# Altium footprint library PCB库.PcbLib: 44 footprints (part 3 of 3)
Each footprint in its own frame and in the unit in brackets; x right, y up, seen from the top. Pads: shape width x height; smd on the part's side, far side on the other; paste and mask are expansions set on the pad; w line width, h text height; cw(c..) or ccw(c..) is an arc to the next point about the centre after c.
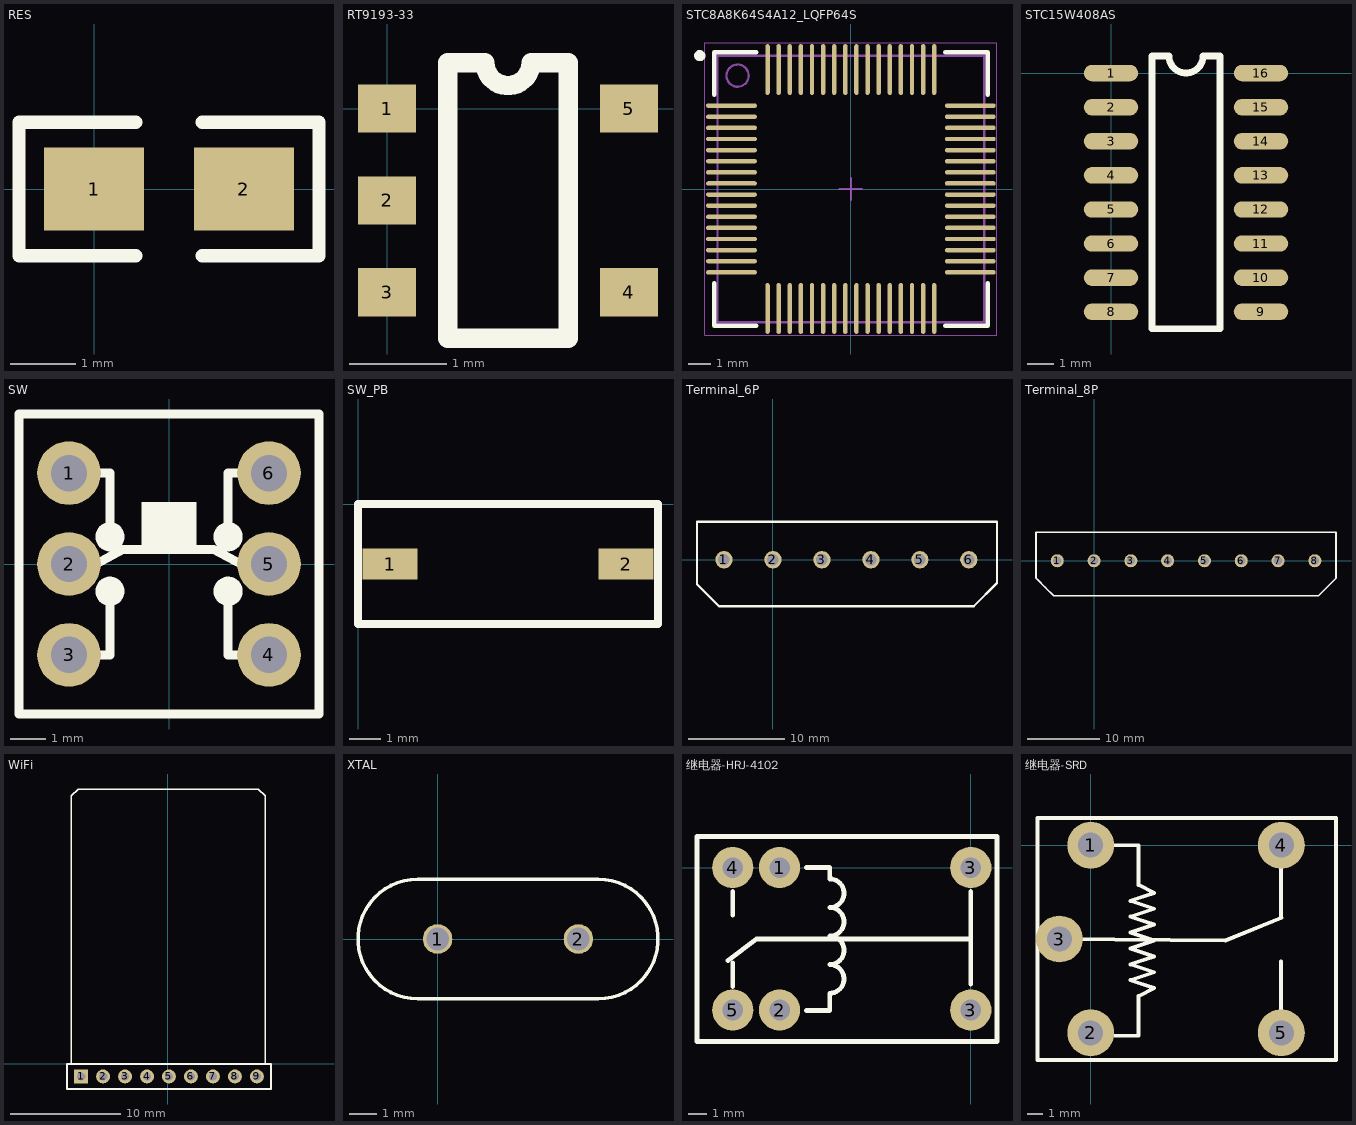
[diagram p2: the footprints below, top view; thin cyan lines are the x and y axes]

## RES [mil]
pads (2):
  rect 60x50 smd: 1(0,0) 2(90,0)
Top Overlay:
  lines w8: 25,-40 -45,-40 -45,40 25,40 ; 65,-40 135,-40 135,40 65,40

## RT9193-33 [mm]
pads (5):
  rect 0.6x0.5 smd: 1(0,0) 2(0,-0.95) 3(0,-1.9) 4(2.5,-1.9) 5(2.5,0)
Top Overlay:
  lines w0.2: 0.627,-2.375 0.627,0.475 1.012,0.475 ccw(c1.25,0.475) 1.488,0.475 1.873,0.475 1.873,-2.375 0.627,-2.375

## STC8A8K64S4A12_LQFP64S [mm] "STC8A8K64S4A12_LQFP64S"
height 1.6
pads (64):
  oval 2.286x0.2 smd: 1(-5.375,3.75) 2(-5.375,3.25) 3(-5.375,2.75) 4(-5.375,2.25) 5(-5.375,1.75) 6(-5.375,1.25) 7(-5.375,0.75) 8(-5.375,0.25) 9(-5.375,-0.25) 10(-5.375,-0.75) 11(-5.375,-1.25) 12(-5.375,-1.75) 13(-5.375,-2.25) 14(-5.375,-2.75) 15(-5.375,-3.25) 16(-5.375,-3.75) 33(5.375,-3.75) 34(5.375,-3.25) 35(5.375,-2.75) 36(5.375,-2.25) 37(5.375,-1.75) 38(5.375,-1.25) 39(5.375,-0.75) 40(5.375,-0.25) 41(5.375,0.25) 42(5.375,0.75) 43(5.375,1.25) 44(5.375,1.75) 45(5.375,2.25) 46(5.375,2.75) 47(5.375,3.25) 48(5.375,3.75)
  oval 0.2x2.286 smd: 17(-3.75,-5.375) 18(-3.25,-5.375) 19(-2.75,-5.375) 20(-2.25,-5.375) 21(-1.75,-5.375) 22(-1.25,-5.375) 23(-0.75,-5.375) 24(-0.25,-5.375) 25(0.25,-5.375) 26(0.75,-5.375) 27(1.25,-5.375) 28(1.75,-5.375) 29(2.25,-5.375) 30(2.75,-5.375) 31(3.25,-5.375) 32(3.75,-5.375) 49(3.75,5.375) 50(3.25,5.375) 51(2.75,5.375) 52(2.25,5.375) 53(1.75,5.375) 54(1.25,5.375) 55(0.75,5.375) 56(0.25,5.375) 57(-0.25,5.375) 58(-0.75,5.375) 59(-1.25,5.375) 60(-1.75,5.375) 61(-2.25,5.375) 62(-2.75,5.375) 63(-3.25,5.375) 64(-3.75,5.375)
Top Overlay:
  circle w0.25: c-6.8,6 r0.125
  lines w0.2: -6.15,-4.25 -6.15,-6.15 -4.25,-6.15 ; -6.15,4.25 -6.15,6.15 -4.25,6.15 ; 4.25,-6.15 6.15,-6.15 6.15,-4.25 ; 4.25,6.15 6.15,6.15 6.15,4.25
Mechanical 13:
  circle w0.1: c-5.1,5.1 r0.5
  lines w0.1: -6,-6 6,-6 6,6 -6,6 -6,-6
Mechanical 15:
  lines w0.05: -6.575,-6.575 6.575,-6.575 6.575,6.575 -6.575,6.575 -6.575,-6.575
  lines w0.1: -0.5,0 0.5,0 ; 0,-0.5 0,0.5
3D body: height 1.6, standoff 0.15, extent -6,-6 6,6

## STC15W408AS [mil]
pads (16):
  oval 80x24 smd: 1(0,0) 2(0,-50) 3(0,-100) 4(0,-150) 5(0,-200) 6(0,-250) 7(0,-300) 8(0,-350) 9(220,-350) 10(220,-300) 11(220,-250) 12(220,-200) 13(220,-150) 14(220,-100) 15(220,-50) 16(220,0)
Top Overlay:
  lines w10: 60,-375 160,-375 160,25 135,25 cw(c110,25) 85,25 60,25 60,-375

## SW [mil]
pads (6):
  round 70 hole 40: 1(-110,100) 2(-110,0) 3(-110,-100) 4(110,-100) 5(110,0) 6(110,100)
Top Overlay:
  circle w18: c-65,30 r7.07
  circle w18: c65,30 r7.07
  circle w18: c65,-30 r7.07
  circle w18: c-65,-30 r7.07
  rectangle: -30,16 30,68
  lines w10: -110,-100 -65,-100 -65,-40 ; -110,0 -80,0 -51,16 49,16 81,-1 109,-1 110,0 ; -110,100 -65,100 -65,30 ; 65,-40 65,-100 110,-100 ; 65,40 65,100 110,100 ; -165,-165 -165,165 165,165 165,-165 -165,-165

## SW_PB [mm]
pads (2):
  rect 1.75x1 smd: 1(1.016,-1.905) 2(8.509,-1.905)
Top Overlay:
  lines w0.254: 0,-3.81 0,0 9.525,0 9.525,-3.81 0,-3.81

## Terminal_6P [mm]
pads (6):
  round 1.8 hole 1.2: 1(-5.08,0) 2(0,0) 3(5.08,0) 4(10.16,0) 5(15.24,0) 6(20.32,0)
Top Overlay:
  lines w0.254: -7.874,-2.54 -7.874,-1.397 -7.874,-0.476 -7.874,0.349 -7.874,1.27 -7.874,3.937 23.241,3.937 23.241,1.524 23.241,-2.413 20.828,-4.826 -5.588,-4.826 -7.874,-2.54

## Terminal_8P [mm]
pads (8):
  round 1.8 hole 1.2: 1(-5.08,0) 2(0,0) 3(5.08,0) 4(10.16,0) 5(15.24,0) 6(20.32,0) 7(25.4,0) 8(30.48,0)
Top Overlay:
  lines w0.254: -8.016,-2.398 -7.771,-2.643 -6.707,-3.707 -5.588,-4.826 30.988,-4.826 33.401,-2.413 33.401,1.524 33.401,3.937 -7.826,3.937 -8.001,3.937 -8.001,-2.159 -8.016,-2.398

## WiFi [mil]
pads (9):
  rect 50x50 hole 30: 1(-310,-45)
  round 50 hole 30: 2(-231.26,-45) 3(-152.52,-45) 4(-73.78,-45) 5(4.96,-45) 6(83.7,-45) 7(162.44,-45) 8(241.18,-45) 9(319.92,-45)
Top Overlay:
  lines w5: -345,0 -345,960 -320,985 325,985 350,960 350,0
  lines w7.87: -360,-90 370,-90 370,0 -360,0 -360,-90

## XTAL [mil]
pads (2):
  round 42 / inner round 68 / far side round 68 hole 32: 1(0,0) 2(200,0)
Top Overlay:
  lines w5: -28,-85.01 cw(c-28,0) -28,85.01 228,85.01 cw(c228,0) 228,-85.01 -28,-85.01

## 继电器-HRJ-4102 [mm]
pads (6):
  round 2.2 hole 1.1: 1(-10.2,0) 2(-10.2,-7.6) 3(0,-7.6) 3(0,0) 4(-12.7,0) 5(-12.7,-7.6)
Top Overlay:
  lines w0.254: -12.954,-4.953 -11.43,-3.81 0,-3.81 ; -12.7,-6.35 -12.7,-5.08 ; -12.7,-2.54 -12.7,-1.27 ; -8.763,-7.62 -7.525,-7.62 -7.525,-6.7 ccw(c-7.525,-5.938) -7.525,-5.176 ccw(c-7.525,-4.414) -7.525,-3.652 ccw(c-7.525,-2.89) -7.525,-2.128 ccw(c-7.525,-1.366) -7.525,-0.604 -7.525,0 -8.763,0 ; 0,-6.223 0,-1.27 ; -14.605,-9.271 -14.605,1.651 1.397,1.651 1.397,-9.271 -14.605,-9.271

## 继电器-SRD [mm]
pads (5):
  round 3 hole 1.6: 1(0,0) 2(0,-12) 3(-2,-6) 4(12.2,0) 5(12.2,-12)
Top Overlay:
  lines w0.254: -2,-6 8.636,-6.096 12.22,-4.64 ; 1.524,-12.192 3.048,-12.192 3.048,-10.668 3.048,-9.652 4.064,-9.144 2.54,-8.636 4.064,-8.128 2.54,-7.62 4.064,-7.112 2.54,-6.604 4.064,-6.096 2.54,-5.588 4.064,-5.08 2.54,-4.572 4.064,-4.064 2.54,-3.556 4.064,-3.048 3.048,-2.54 3.048,0 1.524,0 ; 12.192,-10.668 12.192,-8.636 ; 12.192,-9.144 12.192,-7.429 ; 12.192,-4.572 12.192,-1.524 ; -3.4,-13.75 -3.4,1.75 15.7,1.75 15.7,-13.75 -3.4,-13.75